# Altium footprint library QFP_Sq_100P_Side_M.PcbLib: 9 footprints
Each footprint in its own frame and in the unit in brackets; x right, y up, seen from the top. Pads: shape width x height; smd on the part's side, far side on the other; paste and mask are expansions set on the pad; w line width, h text height; cw(c..) or ccw(c..) is an arc to the next point about the centre after c.
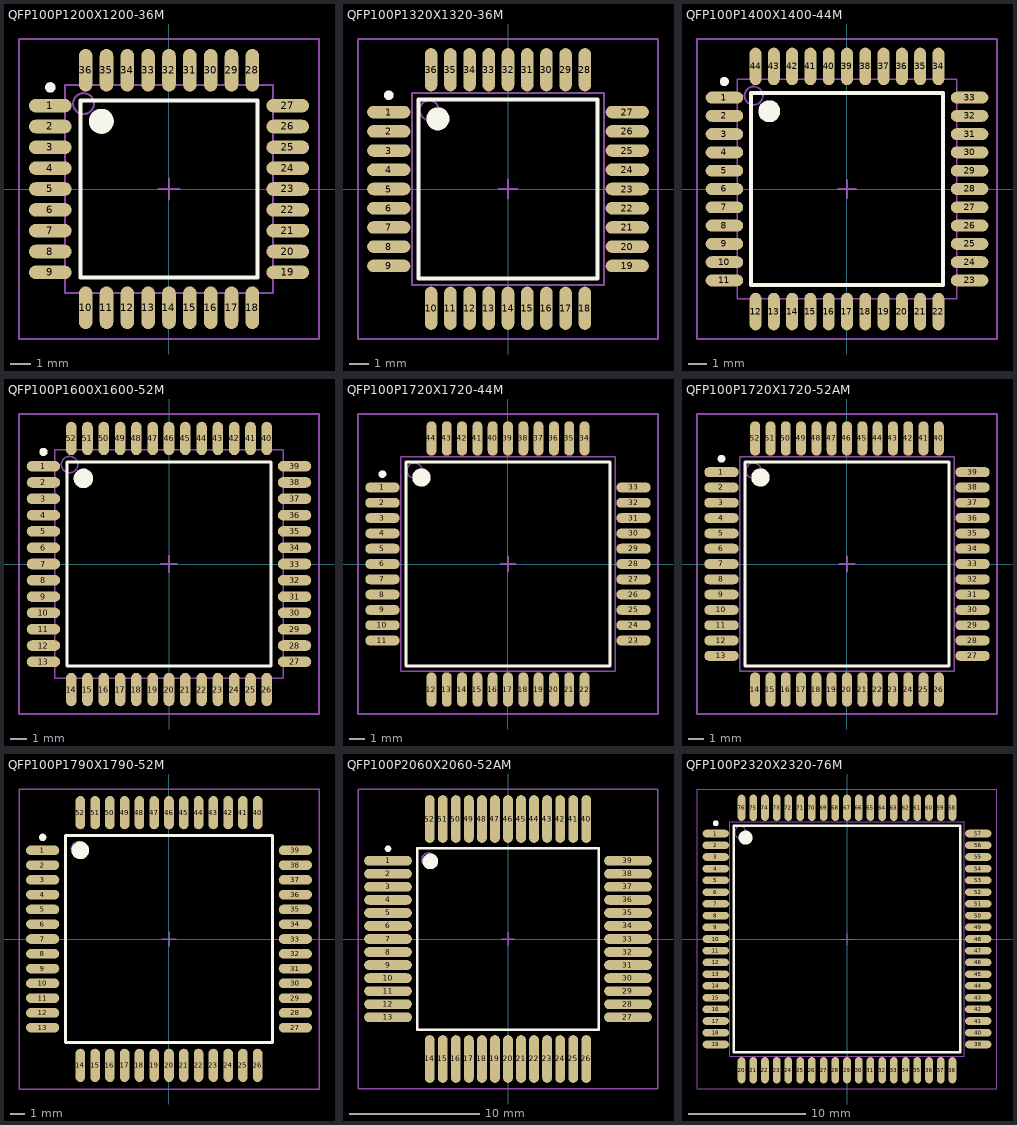
[diagram p0: the footprints below, top view; thin cyan lines are the x and y axes]

## QFP100P1200X1200-36M [mm] "QFP, 36-Leads, Body 10x10mm, Pitch 1mm, IPC Low Density"
height 1.2
pads (36):
  oval 2.05x0.65 smd: 1(-5.7,4) 2(-5.7,3) 3(-5.7,2) 4(-5.7,1) 5(-5.7,0) 6(-5.7,-1) 7(-5.7,-2) 8(-5.7,-3) 9(-5.7,-4) 19(5.7,-4) 20(5.7,-3) 21(5.7,-2) 22(5.7,-1) 23(5.7,0) 24(5.7,1) 25(5.7,2) 26(5.7,3) 27(5.7,4)
  oval 0.65x2.05 smd: 10(-4,-5.7) 11(-3,-5.7) 12(-2,-5.7) 13(-1,-5.7) 14(0,-5.7) 15(1,-5.7) 16(2,-5.7) 17(3,-5.7) 18(4,-5.7) 28(4,5.7) 29(3,5.7) 30(2,5.7) 31(1,5.7) 32(0,5.7) 33(-1,5.7) 34(-2,5.7) 35(-3,5.7) 36(-4,5.7)
Top Overlay:
  circle w0.6: c-3.25,3.25 r0.3
  circle w0.25: c-5.7,4.875 r0.125
  lines w0.2: -4.25,-4.25 4.25,-4.25 4.25,4.25 -4.25,4.25 -4.25,-4.25
Mechanical 13:
  circle w0.1: c-4.1,4.1 r0.5
  lines w0.1: -5,-5 5,-5 5,5 -5,5 -5,-5
Mechanical 15:
  lines w0.1: -0.5,0 0.5,0 ; 0,-0.5 0,0.5 ; -7.2,-7.2 7.2,-7.2 7.2,7.2 -7.2,7.2 -7.2,-7.2
3D body: height 1.2, standoff 0, extent -5,-5 5,5

## QFP100P1320X1320-36M [mm] "QFP, 36-Leads, Body 10x10mm, Pitch 1mm, IPC Low Density"
height 2.45
pads (36):
  oval 2.25x0.65 smd: 1(-6.2,4) 2(-6.2,3) 3(-6.2,2) 4(-6.2,1) 5(-6.2,0) 6(-6.2,-1) 7(-6.2,-2) 8(-6.2,-3) 9(-6.2,-4) 19(6.2,-4) 20(6.2,-3) 21(6.2,-2) 22(6.2,-1) 23(6.2,0) 24(6.2,1) 25(6.2,2) 26(6.2,3) 27(6.2,4)
  oval 0.65x2.25 smd: 10(-4,-6.2) 11(-3,-6.2) 12(-2,-6.2) 13(-1,-6.2) 14(0,-6.2) 15(1,-6.2) 16(2,-6.2) 17(3,-6.2) 18(4,-6.2) 28(4,6.2) 29(3,6.2) 30(2,6.2) 31(1,6.2) 32(0,6.2) 33(-1,6.2) 34(-2,6.2) 35(-3,6.2) 36(-4,6.2)
Top Overlay:
  circle w0.6: c-3.65,3.65 r0.3
  circle w0.25: c-6.2,4.875 r0.125
  lines w0.2: -4.65,-4.65 4.65,-4.65 4.65,4.65 -4.65,4.65 -4.65,-4.65
Mechanical 13:
  circle w0.1: c-4.1,4.1 r0.5
  lines w0.1: -5,-5 5,-5 5,5 -5,5 -5,-5
Mechanical 15:
  lines w0.1: -0.5,0 0.5,0 ; 0,-0.5 0,0.5 ; -7.8,-7.8 7.8,-7.8 7.8,7.8 -7.8,7.8 -7.8,-7.8
3D body: height 2.45, standoff 0, extent -5,-5 5,5

## QFP100P1400X1400-44M [mm] "QFP, 44-Leads, Body 12x12mm, Pitch 1mm, IPC Low Density"
height 1.2
pads (44):
  oval 2.05x0.65 smd: 1(-6.7,5) 2(-6.7,4) 3(-6.7,3) 4(-6.7,2) 5(-6.7,1) 6(-6.7,0) 7(-6.7,-1) 8(-6.7,-2) 9(-6.7,-3) 10(-6.7,-4) 11(-6.7,-5) 23(6.7,-5) 24(6.7,-4) 25(6.7,-3) 26(6.7,-2) 27(6.7,-1) 28(6.7,0) 29(6.7,1) 30(6.7,2) 31(6.7,3) 32(6.7,4) 33(6.7,5)
  oval 0.65x2.05 smd: 12(-5,-6.7) 13(-4,-6.7) 14(-3,-6.7) 15(-2,-6.7) 16(-1,-6.7) 17(0,-6.7) 18(1,-6.7) 19(2,-6.7) 20(3,-6.7) 21(4,-6.7) 22(5,-6.7) 34(5,6.7) 35(4,6.7) 36(3,6.7) 37(2,6.7) 38(1,6.7) 39(0,6.7) 40(-1,6.7) 41(-2,6.7) 42(-3,6.7) 43(-4,6.7) 44(-5,6.7)
Top Overlay:
  circle w0.6: c-4.25,4.25 r0.3
  circle w0.25: c-6.7,5.875 r0.125
  lines w0.2: -5.25,-5.25 5.25,-5.25 5.25,5.25 -5.25,5.25 -5.25,-5.25
Mechanical 13:
  circle w0.1: c-5.1,5.1 r0.5
  lines w0.1: -6,-6 6,-6 6,6 -6,6 -6,-6
Mechanical 15:
  lines w0.1: -0.5,0 0.5,0 ; 0,-0.5 0,0.5 ; -8.2,-8.2 8.2,-8.2 8.2,8.2 -8.2,8.2 -8.2,-8.2
3D body: height 1.2, standoff 0, extent -6,-6 6,6

## QFP100P1600X1600-52M [mm] "QFP, 52-Leads, Body 14x14mm, Pitch 1mm, IPC Low Density"
height 1.2
pads (52):
  oval 2.05x0.65 smd: 1(-7.7,6) 2(-7.7,5) 3(-7.7,4) 4(-7.7,3) 5(-7.7,2) 6(-7.7,1) 7(-7.7,0) 8(-7.7,-1) 9(-7.7,-2) 10(-7.7,-3) 11(-7.7,-4) 12(-7.7,-5) 13(-7.7,-6) 27(7.7,-6) 28(7.7,-5) 29(7.7,-4) 30(7.7,-3) 31(7.7,-2) 32(7.7,-1) 33(7.7,0) 34(7.7,1) 35(7.7,2) 36(7.7,3) 37(7.7,4) 38(7.7,5) 39(7.7,6)
  oval 0.65x2.05 smd: 14(-6,-7.7) 15(-5,-7.7) 16(-4,-7.7) 17(-3,-7.7) 18(-2,-7.7) 19(-1,-7.7) 20(0,-7.7) 21(1,-7.7) 22(2,-7.7) 23(3,-7.7) 24(4,-7.7) 25(5,-7.7) 26(6,-7.7) 40(6,7.7) 41(5,7.7) 42(4,7.7) 43(3,7.7) 44(2,7.7) 45(1,7.7) 46(0,7.7) 47(-1,7.7) 48(-2,7.7) 49(-3,7.7) 50(-4,7.7) 51(-5,7.7) 52(-6,7.7)
Top Overlay:
  circle w0.6: c-5.25,5.25 r0.3
  circle w0.25: c-7.7,6.875 r0.125
  lines w0.2: -6.25,-6.25 6.25,-6.25 6.25,6.25 -6.25,6.25 -6.25,-6.25
Mechanical 13:
  circle w0.1: c-6.1,6.1 r0.5
  lines w0.1: -7,-7 7,-7 7,7 -7,7 -7,-7
Mechanical 15:
  lines w0.1: -0.5,0 0.5,0 ; 0,-0.5 0,0.5 ; -9.2,-9.2 9.2,-9.2 9.2,9.2 -9.2,9.2 -9.2,-9.2
3D body: height 1.2, standoff 0, extent -7,-7 7,7

## QFP100P1720X1720-44M [mm] "44-Pin Quad Flat Pack 1 mm Pitch"
height 3.4
pads (44):
  oval 2.25x0.65 smd: 1(-8.2,5) 2(-8.2,4) 3(-8.2,3) 4(-8.2,2) 5(-8.2,1) 6(-8.2,0) 7(-8.2,-1) 8(-8.2,-2) 9(-8.2,-3) 10(-8.2,-4) 11(-8.2,-5) 23(8.2,-5) 24(8.2,-4) 25(8.2,-3) 26(8.2,-2) 27(8.2,-1) 28(8.2,0) 29(8.2,1) 30(8.2,2) 31(8.2,3) 32(8.2,4) 33(8.2,5)
  oval 0.65x2.25 smd: 12(-5,-8.2) 13(-4,-8.2) 14(-3,-8.2) 15(-2,-8.2) 16(-1,-8.2) 17(0,-8.2) 18(1,-8.2) 19(2,-8.2) 20(3,-8.2) 21(4,-8.2) 22(5,-8.2) 34(5,8.2) 35(4,8.2) 36(3,8.2) 37(2,8.2) 38(1,8.2) 39(0,8.2) 40(-1,8.2) 41(-2,8.2) 42(-3,8.2) 43(-4,8.2) 44(-5,8.2)
Top Overlay:
  circle w0.6: c-5.65,5.65 r0.3
  circle w0.25: c-8.2,5.875 r0.125
  lines w0.2: -6.65,-6.65 6.65,-6.65 6.65,6.65 -6.65,6.65 -6.65,-6.65
Mechanical 13:
  circle w0.1: c-6.1,6.1 r0.5
  lines w0.1: -7,-7 7,-7 7,7 -7,7 -7,-7
Mechanical 15:
  lines w0.1: -0.5,0 0.5,0 ; 0,-0.5 0,0.5 ; -9.8,-9.8 9.8,-9.8 9.8,9.8 -9.8,9.8 -9.8,-9.8
3D body: height 3.4, standoff 0, extent -7,-7 7,7

## QFP100P1720X1720-52AM [mm] "QFP, 52-Leads, Body 14x14mm, Pitch 1mm, IPC Low Density"
height 3
pads (52):
  oval 2.25x0.65 smd: 1(-8.2,6) 2(-8.2,5) 3(-8.2,4) 4(-8.2,3) 5(-8.2,2) 6(-8.2,1) 7(-8.2,0) 8(-8.2,-1) 9(-8.2,-2) 10(-8.2,-3) 11(-8.2,-4) 12(-8.2,-5) 13(-8.2,-6) 27(8.2,-6) 28(8.2,-5) 29(8.2,-4) 30(8.2,-3) 31(8.2,-2) 32(8.2,-1) 33(8.2,0) 34(8.2,1) 35(8.2,2) 36(8.2,3) 37(8.2,4) 38(8.2,5) 39(8.2,6)
  oval 0.65x2.25 smd: 14(-6,-8.2) 15(-5,-8.2) 16(-4,-8.2) 17(-3,-8.2) 18(-2,-8.2) 19(-1,-8.2) 20(0,-8.2) 21(1,-8.2) 22(2,-8.2) 23(3,-8.2) 24(4,-8.2) 25(5,-8.2) 26(6,-8.2) 40(6,8.2) 41(5,8.2) 42(4,8.2) 43(3,8.2) 44(2,8.2) 45(1,8.2) 46(0,8.2) 47(-1,8.2) 48(-2,8.2) 49(-3,8.2) 50(-4,8.2) 51(-5,8.2) 52(-6,8.2)
Top Overlay:
  circle w0.25: c-8.2,6.875 r0.125
  circle w0.6: c-5.65,5.65 r0.3
  lines w0.2: -6.65,-6.65 -6.65,6.65 6.65,6.65 6.65,-6.65 -6.65,-6.65
Mechanical 13:
  circle w0.1: c-6.1,6.1 r0.5
  lines w0.1: -7,-7 -7,7 7,7 7,-7 -7,-7
Mechanical 15:
  lines w0.1: -0.5,0 0.5,0 ; 0,-0.5 0,0.5 ; -9.8,-9.8 -9.8,9.8 9.8,9.8 9.8,-9.8 -9.8,-9.8
3D body: height 3, standoff 0, extent -7,-7 7,7

## QFP100P1790X1790-52M [mm] "QFP, 52-Leads, Body 14x14mm, Pitch 1mm, IPC Low Density"
height 2.45
pads (52):
  oval 2.25x0.65 smd: 1(-8.55,6) 2(-8.55,5) 3(-8.55,4) 4(-8.55,3) 5(-8.55,2) 6(-8.55,1) 7(-8.55,0) 8(-8.55,-1) 9(-8.55,-2) 10(-8.55,-3) 11(-8.55,-4) 12(-8.55,-5) 13(-8.55,-6) 27(8.55,-6) 28(8.55,-5) 29(8.55,-4) 30(8.55,-3) 31(8.55,-2) 32(8.55,-1) 33(8.55,0) 34(8.55,1) 35(8.55,2) 36(8.55,3) 37(8.55,4) 38(8.55,5) 39(8.55,6)
  oval 0.65x2.25 smd: 14(-6,-8.55) 15(-5,-8.55) 16(-4,-8.55) 17(-3,-8.55) 18(-2,-8.55) 19(-1,-8.55) 20(0,-8.55) 21(1,-8.55) 22(2,-8.55) 23(3,-8.55) 24(4,-8.55) 25(5,-8.55) 26(6,-8.55) 40(6,8.55) 41(5,8.55) 42(4,8.55) 43(3,8.55) 44(2,8.55) 45(1,8.55) 46(0,8.55) 47(-1,8.55) 48(-2,8.55) 49(-3,8.55) 50(-4,8.55) 51(-5,8.55) 52(-6,8.55)
Top Overlay:
  circle w0.6: c-6,6 r0.3
  circle w0.25: c-8.55,6.875 r0.125
  lines w0.2: -7,-7 7,-7 7,7 -7,7 -7,-7
Mechanical 13:
  circle w0.1: c-6.1,6.1 r0.5
  lines w0.1: -7,-7 7,-7 7,7 -7,7 -7,-7
Mechanical 15:
  lines w0.1: -0.5,0 0.5,0 ; 0,-0.5 0,0.5 ; -10.15,-10.15 10.15,-10.15 10.15,10.15 -10.15,10.15 -10.15,-10.15
3D body: height 2.45, standoff 0, extent -7,-7 7,7

## QFP100P2060X2060-52AM [mm] "QFP, 52-Leads, Body 14x14mm, Pitch 1mm, IPC Low Density"
height 2.8
pads (52):
  oval 3.65x0.75 smd: 1(-9.2,6) 2(-9.2,5) 3(-9.2,4) 4(-9.2,3) 5(-9.2,2) 6(-9.2,1) 7(-9.2,0) 8(-9.2,-1) 9(-9.2,-2) 10(-9.2,-3) 11(-9.2,-4) 12(-9.2,-5) 13(-9.2,-6) 27(9.2,-6) 28(9.2,-5) 29(9.2,-4) 30(9.2,-3) 31(9.2,-2) 32(9.2,-1) 33(9.2,0) 34(9.2,1) 35(9.2,2) 36(9.2,3) 37(9.2,4) 38(9.2,5) 39(9.2,6)
  oval 0.75x3.65 smd: 14(-6,-9.2) 15(-5,-9.2) 16(-4,-9.2) 17(-3,-9.2) 18(-2,-9.2) 19(-1,-9.2) 20(0,-9.2) 21(1,-9.2) 22(2,-9.2) 23(3,-9.2) 24(4,-9.2) 25(5,-9.2) 26(6,-9.2) 40(6,9.2) 41(5,9.2) 42(4,9.2) 43(3,9.2) 44(2,9.2) 45(1,9.2) 46(0,9.2) 47(-1,9.2) 48(-2,9.2) 49(-3,9.2) 50(-4,9.2) 51(-5,9.2) 52(-6,9.2)
Top Overlay:
  circle w0.25: c-9.2,6.925 r0.125
  circle w0.6: c-5.95,5.95 r0.3
  lines w0.2: -6.95,-6.95 -6.95,6.95 6.95,6.95 6.95,-6.95 -6.95,-6.95
Mechanical 13:
  circle w0.1: c-6.1,6.1 r0.5
  lines w0.1: -7,-7 -7,7 7,7 7,-7 -7,-7
Mechanical 15:
  lines w0.1: -0.5,0 0.5,0 ; 0,-0.5 0,0.5 ; -11.5,-11.5 -11.5,11.5 11.5,11.5 11.5,-11.5 -11.5,-11.5
3D body: height 2.8, standoff 0, extent -7,-7 7,7

## QFP100P2320X2320-76M [mm] "QFP, 76-Leads, Body 20x20mm, Pitch 1mm, IPC Low Density"
height 3.4
pads (76):
  oval 2.25x0.65 smd: 1(-11.2,9) 2(-11.2,8) 3(-11.2,7) 4(-11.2,6) 5(-11.2,5) 6(-11.2,4) 7(-11.2,3) 8(-11.2,2) 9(-11.2,1) 10(-11.2,0) 11(-11.2,-1) 12(-11.2,-2) 13(-11.2,-3) 14(-11.2,-4) 15(-11.2,-5) 16(-11.2,-6) 17(-11.2,-7) 18(-11.2,-8) 19(-11.2,-9) 39(11.2,-9) 40(11.2,-8) 41(11.2,-7) 42(11.2,-6) 43(11.2,-5) 44(11.2,-4) 45(11.2,-3) 46(11.2,-2) 47(11.2,-1) 48(11.2,0) 49(11.2,1) 50(11.2,2) 51(11.2,3) 52(11.2,4) 53(11.2,5) 54(11.2,6) 55(11.2,7) 56(11.2,8) 57(11.2,9)
  oval 0.65x2.25 smd: 20(-9,-11.2) 21(-8,-11.2) 22(-7,-11.2) 23(-6,-11.2) 24(-5,-11.2) 25(-4,-11.2) 26(-3,-11.2) 27(-2,-11.2) 28(-1,-11.2) 29(0,-11.2) 30(1,-11.2) 31(2,-11.2) 32(3,-11.2) 33(4,-11.2) 34(5,-11.2) 35(6,-11.2) 36(7,-11.2) 37(8,-11.2) 38(9,-11.2) 58(9,11.2) 59(8,11.2) 60(7,11.2) 61(6,11.2) 62(5,11.2) 63(4,11.2) 64(3,11.2) 65(2,11.2) 66(1,11.2) 67(0,11.2) 68(-1,11.2) 69(-2,11.2) 70(-3,11.2) 71(-4,11.2) 72(-5,11.2) 73(-6,11.2) 74(-7,11.2) 75(-8,11.2) 76(-9,11.2)
Top Overlay:
  circle w0.6: c-8.65,8.65 r0.3
  circle w0.25: c-11.2,9.875 r0.125
  lines w0.2: -9.65,-9.65 9.65,-9.65 9.65,9.65 -9.65,9.65 -9.65,-9.65
Mechanical 13:
  circle w0.1: c-9.1,9.1 r0.5
  lines w0.1: -10,-10 10,-10 10,10 -10,10 -10,-10
Mechanical 15:
  lines w0.1: -0.5,0 0.5,0 ; 0,-0.5 0,0.5 ; -12.8,-12.8 12.8,-12.8 12.8,12.8 -12.8,12.8 -12.8,-12.8
3D body: height 3.4, standoff 0, extent -10,-10 10,10